# EAGLE library part AD7705 (library ad)
Two Fully Differential Input Channel, Low Noise, Low Power, 16-Bit Sigma-Delta ADC with On-Chip In-Amp and Reference See datasheet <http://www.analog.com/static/imported-files/data_sheets/AD7705_7706.pdf>.
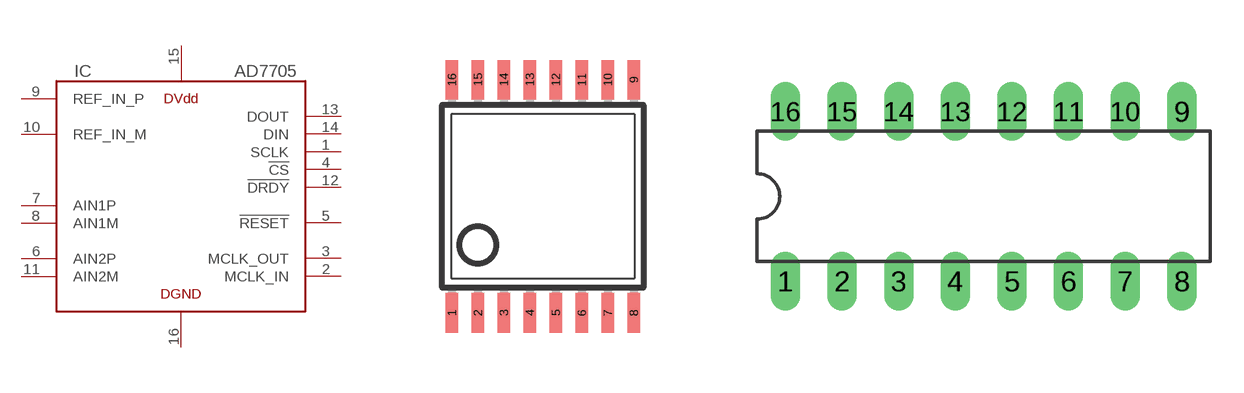
[diagram p4: symbol with the pads of TSSOP16; footprints TSSOP16, DIL16]

Designator prefix IC

## AD7705TSSOP  [TSSOP16]
1  SCLK  in
2  MCLK_IN  pas
3  MCLK_OUT  pas
4  !CS  in
5  !RESET  in
6  AIN2P  in
7  AIN1P  in
8  AIN1M  in
9  REF_IN_P  in
10  REF_IN_M  in
11  AIN2M  in
12  !DRDY  out
13  DOUT  out
14  DIN  in
15  DVDD  pwr
16  DGND  pwr

## AD7705DIP  [DIL16]
Pads as for TSSOP16

## AD7705SOIC  [SO16W]
Pads as for TSSOP16

## Footprint TSSOP16 (pad centres in mm)
Thin Shrink Small Outline Plastic TSSOP16
smd 0.305 x 0.991: 1 -2.275,-2.918; 2 -1.625,-2.918; 3 -0.975,-2.918; 4 -0.325,-2.918; 5 0.325,-2.918; 6 0.975,-2.918; 7 1.625,-2.918; 8 2.275,-2.918; 9 2.275,2.918; 10 1.625,2.918; 11 0.975,2.918; 12 0.325,2.918; 13 -0.325,2.918; 14 -0.975,2.918; 15 -1.625,2.918; 16 -2.275,2.918

## Footprint DIL16 (pad centres in mm)
Dual In Line Package
drill 0.813 long: 1 -8.89,-3.81; 2 -6.35,-3.81; 3 -3.81,-3.81; 4 -1.27,-3.81; 5 1.27,-3.81; 6 3.81,-3.81; 7 6.35,-3.81; 8 8.89,-3.81; 9 8.89,3.81; 10 6.35,3.81; 11 3.81,3.81; 12 1.27,3.81; 13 -1.27,3.81; 14 -3.81,3.81; 15 -6.35,3.81; 16 -8.89,3.81

## Footprint SO16W (pad centres in mm)
SMALL OUTLINE INTEGRATED CIRCUIT wide body 7.5 mm/JEDEC MS-013AA
smd 0.6 x 2.2: 1 -4.445,-4.6; 2 -3.175,-4.6; 3 -1.905,-4.6; 4 -0.635,-4.6; 5 0.635,-4.6; 6 1.905,-4.6; 7 3.175,-4.6; 8 4.445,-4.6; 9 4.445,4.6; 10 3.175,4.6; 11 1.905,4.6; 12 0.635,4.6; 13 -0.635,4.6; 14 -1.905,4.6; 15 -3.175,4.6; 16 -4.445,4.6